# Altium schematic symbol library Flash_Card_Reader_2.SCHLIB: 4 symbols
Pins are listed as number, name and electrical type; pins without a type are passive.

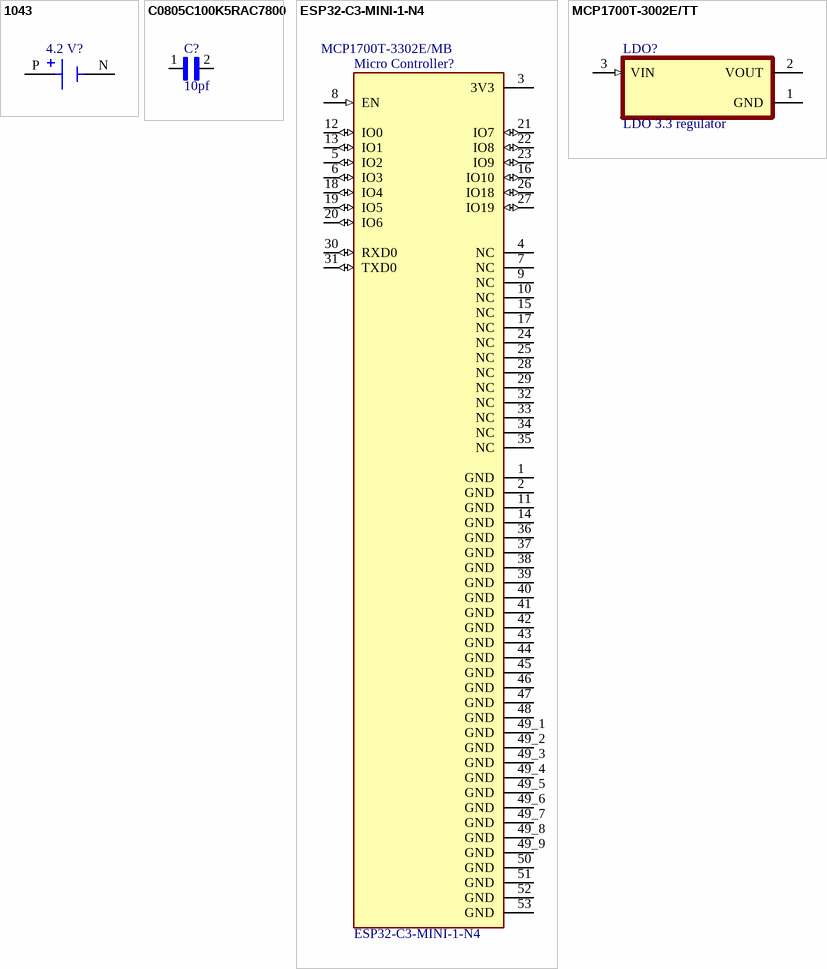
[diagram p0: symbols 1043 to MCP1700T-3002E/TT]

## 1043
designator 4.2 V?
MP: 1043; Price: None; Availability: Unavailable; Value: *; Package: None
footprint BAT_1043
pins: N NEG, P POS

## C0805C100K5RAC7800
designator C?, comment 10pf
MP: C0805C100K5RAC7800; Package: None; Price: None; Value: *; Availability: Unavailable
footprint CAPC2012X88N
pins: 1, 2

## ESP32-C3-MINI-1-N4
designator Micro Controller?  Supplier Part Number 1: MCP1700T-3302E/MB
Pwr Sply Func, Voltage Regulator, LDO, SOT-89, PD 1.635W, VO 3.3V, Regline +/-0.75%/V; Manufacturer: Microchip; MF: Espressif Systems; Number of Outputs: 1; Min Input Voltage: 2.3V; Max Output Current: 250mA; Dropout Voltage: 178mV; Max Input Voltage: 6V; Input Bias Current: 1.6uA; Polarity: Positive; Quiescent Current: 4uA; Accuracy: 3%; Output Type: Fixed; Output Voltage Accuracy: 2%; SnapEDA_Link: https://www.snapeda.com/parts/ESP32-C3-MINI-1-N4/Espressif+Systems/view-part/?ref=snap; Package: SMD-53 Espressif Systems; Value: *; MP: ESP32-C3-MINI-1-N4; Check_prices: https://www.snapeda.com/parts/ESP32-C3-MINI-1-N4/Espressif+Systems/view-part/?ref=eda; Supplier 1: Arrow Electronics; Manufacturer Part Number: MCP1700T-3302E/MB; RoHS: Yes; Category: Voltage Regulators - Linear; Stock 1: 650; Pricing 1: 1=0.4806, 10=0.4731, 25=0.4655, 100=0.458, 250=0.4505, 500=0.4429 (USD); Mount: Surface Mount; Case/Package: SOT-89; Number of Pins: 3; Min Operating Temperature: -40°C; Max Operating Temperature: 125°C; Packaging: Tape and Reel; Output Voltage: 3.3V; Output Current: 250mA; Nominal Output Voltage: 3.3V; Package Quantity: 1000; Max Power Dissipation: 1.635W; Min Output Voltage: 3.3V; Power Dissipation: 1.635W; Max Supply Voltage: 6V; Min Supply Voltage: 2.3V; Max Output Voltage: 3.3V; Termination: SMD/SMT; Supply Current: 4uA; Number of Channels: 1; Length: 4.6mm; Width: 2.29mm; Height: 1.6mm; Radiation Hardening: No; Reach SVHC Compliant: No; Lead Free: Lead Free; RoHS Compliant: Yes
footprint XCVR_ESP32-C3-MINI-1-N4
pins: 1 GND (power), 2 GND (power), 3 3V3 (power), 4 NC, 5 IO2 (io), 6 IO3 (io), 7 NC, 8 EN (in), 9 NC, 10 NC, 11 GND (power), 12 IO0 (io), 13 IO1 (io), 14 GND (power), 15 NC, 16 IO10 (io), 17 NC, 18 IO4 (io), 19 IO5 (io), 20 IO6 (io), 21 IO7 (io), 22 IO8 (io), 23 IO9 (io), 24 NC, 25 NC, 26 IO18 (io), 27 IO19 (io), 28 NC, 29 NC, 30 RXD0 (io), 31 TXD0 (io), 32 NC, 33 NC, 34 NC, 35 NC, 36 GND (power), 37 GND (power), 38 GND (power), 39 GND (power), 40 GND (power), 41 GND (power), 42 GND (power), 43 GND (power), 44 GND (power), 45 GND (power), 46 GND (power), 47 GND (power), 48 GND (power), 49_1 GND (power), 49_2 GND (power), 49_3 GND (power), 49_4 GND (power), 49_5 GND (power), 49_6 GND (power), 49_7 GND (power), 49_8 GND (power), 49_9 GND (power), 50 GND (power), 51 GND (power), 52 GND (power), 53 GND (power)

## MCP1700T-3002E/TT
designator LDO?, comment LDO 3.3 regulator
Linear Voltage Regulator IC Positive Fixed 1 Output 250mA SOT-23-3; MP: MCP1700T-3002E/TT; MF: Microchip; SnapEDA_Link: https://www.snapeda.com/parts/MCP1700T-3002E/TT/Microchip/view-part/48518/?ref=snap; Availability: Unavailable; Price: None; Value: *; Package: SOT-23 Microchip
footprint SOT95P237X112-3N
pins: 1 GND (power), 2 VOUT, 3 VIN (in)